# Altium schematic symbol library Jumper 9.SchLib: 1 symbol
Pins are listed as number, name and electrical type; pins without a type are passive.

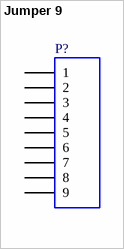
[diagram p0: symbol Jumper 9]

## Jumper 9
designator P?
Jumper / link header, 9-Pin
pins: 1, 2, 3, 4, 5, 6, 7, 8, 9